# EAGLE library part SN74HC4066DR (library SN74HC4066DR)
QUADRUPLE BILATERAL ANALOG SWITCH
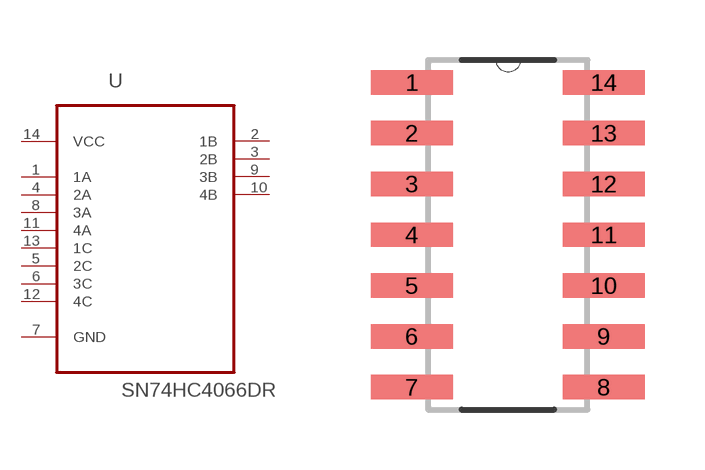
[diagram p0: symbol with the pads of SOIC127P600X175-14N; footprint SOIC127P600X175-14N]

Designator prefix U

## SN74HC4066DR (Availability: Unavailable; Description: Logic - Signal Switches Quadruple Bilateral Analog Switches; MF: Texas Instruments; MP: SN74HC4066DR; Package: SOIC-14 Texas Instruments; Price: None)  [SOIC127P600X175-14N]
1  1A  in
2  1B  out
3  2B  out
4  2A  in
5  2C  in
6  3C  in
7  GND  pas
8  3A  in
9  3B  out
10  4B  out
11  4A  in
12  4C  in
13  1C  in
14  VCC  pwr

## Footprint SOIC127P600X175-14N (pad centres in mm)
smd 2.057 x 0.61: 1 -4.801,7.62; 2 -4.801,6.35; 3 -4.801,5.08; 4 -4.801,3.81; 5 -4.801,2.54; 6 -4.801,1.27; 7 -4.801,0; 8 0,0; 9 0,1.27; 10 0,2.54; 11 0,3.81; 12 0,5.08; 13 0,6.35; 14 0,7.62